# Altium footprint library WSON-8_2x2mm.PcbLib: 1 footprints
Each footprint in its own frame and in the unit in brackets; x right, y up, seen from the top. Pads: shape width x height; smd on the part's side, far side on the other; paste and mask are expansions set on the pad; w line width, h text height; cw(c..) or ccw(c..) is an arc to the next point about the centre after c.
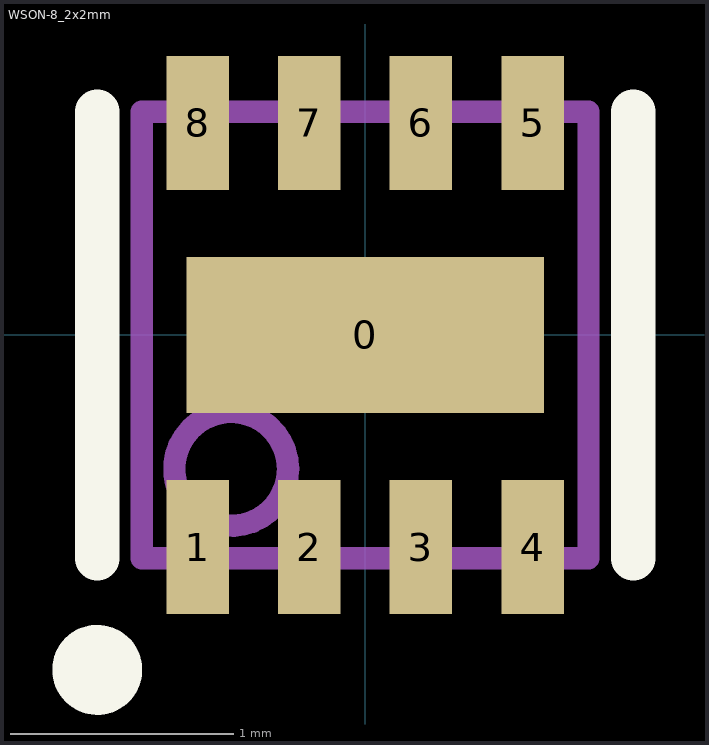
[diagram p0: the footprint, top view; thin cyan lines are the x and y axes]

## WSON-8_2x2mm [mm]
pads (9):
  rect 1.6x0.7 smd mask+0.051: 0(0,0)
  rect 0.28x0.6 smd mask+0.051: 1(-0.75,-0.95) 2(-0.25,-0.95) 3(0.25,-0.95) 4(0.75,-0.95) 5(0.75,0.95) 6(0.25,0.95) 7(-0.25,0.95) 8(-0.75,0.95)
Top Overlay:
  circle w0.203: c-1.2,-1.5 r0.1
  lines w0.2: -1.2,-1 -1.2,1 ; 1.2,-1 1.2,1
Mechanical 13:
  circle w0.1: c-0.6,-0.6 r0.255
  lines w0.1: -1,-1 -1,1 1,1 1,-1 -1,-1